# EAGLE library part INA240 (library Bauteile)
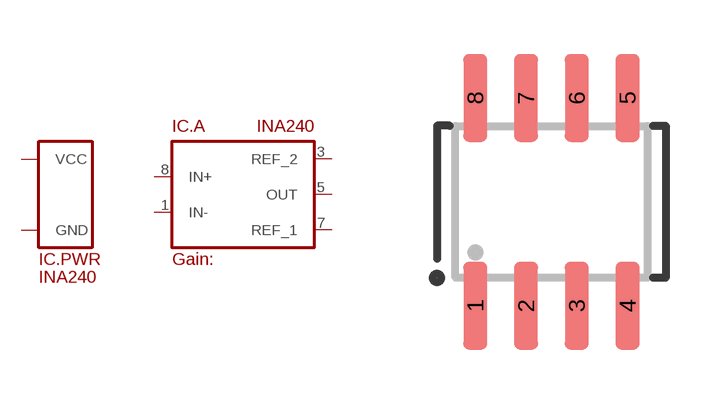
[diagram p38: symbol with the pads of SO8; footprint SO8]

Designator prefix IC; gates .PWR=SUPPLY_VCC/GND .A=INA240

## INA240  [SO8]
1  .A:IN-
2  .PWR:GND
3  .A:REF_2
5  .A:OUT
6  .PWR:VCC
7  .A:REF_1
8  .A:IN+

## Footprint SO8 (pad centres in mm)
smd 0.6 x 2.2: 1 -1.905,-2.6; 2 -0.635,-2.6; 3 0.635,-2.6; 4 1.905,-2.6; 5 1.905,2.6; 6 0.635,2.6; 7 -0.635,2.6; 8 -1.905,2.6